# Altium footprint library OL_32X24X24.pcblib: 1 footprints
Each footprint in its own frame and in the unit in brackets; x right, y up, seen from the top. Pads: shape width x height; smd on the part's side, far side on the other; paste and mask are expansions set on the pad; w line width, h text height; cw(c..) or ccw(c..) is an arc to the next point about the centre after c.
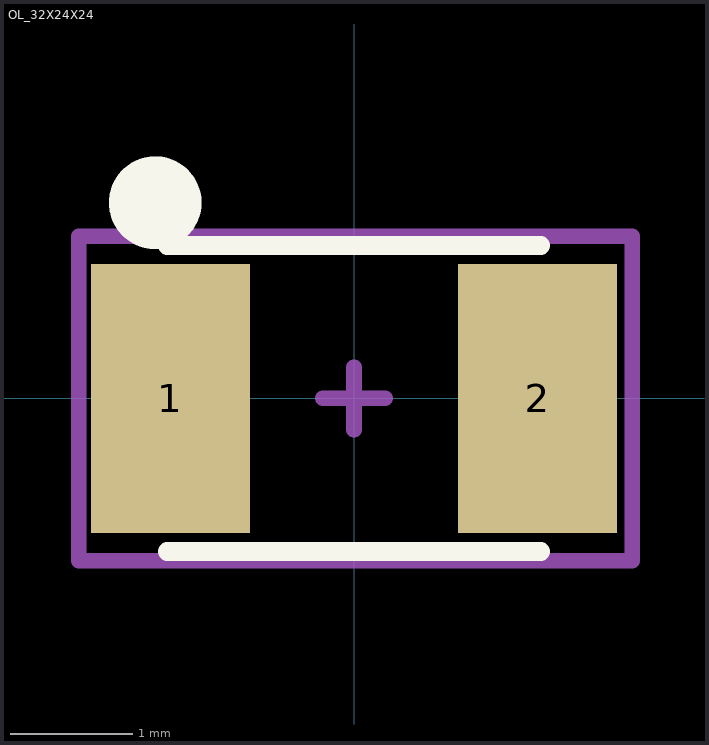
[diagram p0: the footprint, top view; thin cyan lines are the x and y axes]

## OL_32X24X24 [mm]
pads (2):
  rect 1.3x2.2 smd: 1(-1.5,0) 2(1.5,0)
Top Overlay:
  circle w0.508: c-1.625,1.6 r0.125
  lines w0.152: -1.525,-1.25 1.525,-1.25 ; -1.525,1.25 1.525,1.25
Mechanical 15:
  lines w0.127: -0.254,0 0.254,0 ; 0,-0.254 0,0.254 ; -2.25,-1.325 2.275,-1.325 2.275,1.325 -2.25,1.325 -2.25,-1.325